# Altium schematic symbol library RC0805FR-071K5L.SchLib: 1 symbol
Pins are listed as number, name and electrical type; pins without a type are passive.

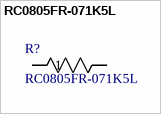
[diagram p0: symbol RC0805FR-071K5L]

## RC0805FR-071K5L
designator R?
Description; Manufacturer_Name: Yageo; Copyright: Copyright (C) 2025 Ultra Librarian. All rights reserved.; Manufacturer_Part_Number: RC0805FR-071K5L
footprint RC0805N_YAG
pins: 1, 2